# Altium footprint library HEADER_4_RA.PcbLib: 1 footprints
Each footprint in its own frame and in the unit in brackets; x right, y up, seen from the top. Pads: shape width x height; smd on the part's side, far side on the other; paste and mask are expansions set on the pad; w line width, h text height; cw(c..) or ccw(c..) is an arc to the next point about the centre after c.
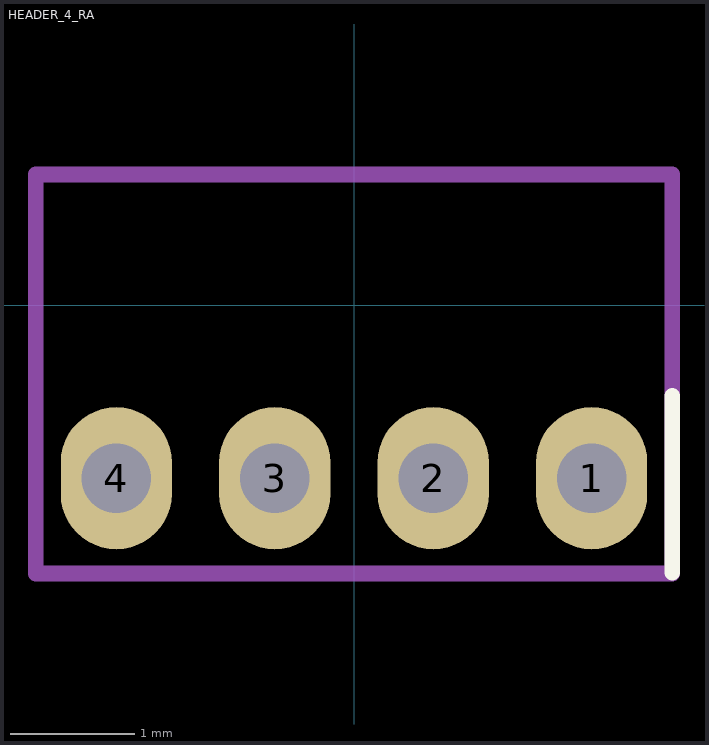
[diagram p0: the footprint, top view; thin cyan lines are the x and y axes]

## HEADER_4_RA [mm]
pads (4):
  oval 0.89x1.14 hole 0.56: 1(1.905,-1.385) 2(0.635,-1.385) 3(-0.635,-1.385) 4(-1.905,-1.385)
Top Overlay:
  lines w0.127: 2.55,-2.14 2.55,-0.725
Courtyards/Models - Top:
  lines w0.127: -2.55,-2.15 2.55,-2.15 2.55,1.05 -2.55,1.05 -2.55,-2.15
3D body: height 3.02, standoff -2.47, extent -3.124,-1.634 3.124,4.5